# Altium footprint library PCB - CONNECTOR - HARWIN - HARWIN M20-9740645.PcbLib: 1 footprints
Each footprint in its own frame and in the unit in brackets; x right, y up, seen from the top. Pads: shape width x height; smd on the part's side, far side on the other; paste and mask are expansions set on the pad; w line width, h text height; cw(c..) or ccw(c..) is an arc to the next point about the centre after c.
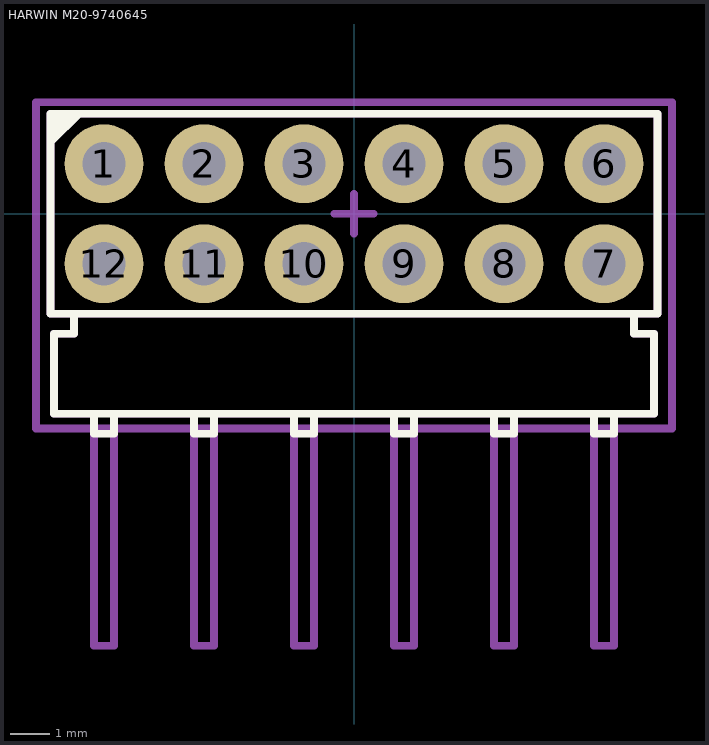
[diagram p0: the footprint, top view; thin cyan lines are the x and y axes]

## HARWIN M20-9740645 [mm] "2.54mm DIL PC TAIL PIN HEADER ASSEMBLY"
height 2.54
pads (12):
  round 2 hole 1.1: 1(-6.35,1.27) 2(-3.81,1.27) 3(-1.27,1.27) 4(1.27,1.27) 5(3.81,1.27) 6(6.35,1.27) 7(6.35,-1.27) 8(3.81,-1.27) 9(1.27,-1.27) 10(-1.27,-1.27) 11(-3.81,-1.27) 12(-6.35,-1.27)
Top Overlay:
  region: -7.73,2.57 -7.73,1.67 -6.83,2.57
  lines w0.2: -7.112,-2.54 -7.112,-3.048 -7.62,-3.048 -7.62,-5.08 7.62,-5.08 7.62,-3.048 7.112,-3.048 7.112,-2.54 ; -6.604,-5.08 -6.604,-5.588 -6.096,-5.588 -6.096,-5.08 ; -4.064,-5.08 -4.064,-5.588 -3.556,-5.588 -3.556,-5.08 ; -1.524,-5.08 -1.524,-5.588 -1.016,-5.588 -1.016,-5.08 ; 1.016,-5.08 1.016,-5.588 1.524,-5.588 1.524,-5.08 ; 3.556,-5.08 3.556,-5.588 4.064,-5.588 4.064,-5.08 ; 6.096,-5.08 6.096,-5.588 6.604,-5.588 6.604,-5.08 ; -7.71,-2.54 7.71,-2.54 7.71,2.54 -7.71,2.54 -7.71,-2.54
Top Assembly:
  lines w0.2: -6.604,-2.54 -7.112,-2.54 -7.112,-3.048 -7.62,-3.048 -7.62,-5.08 -6.604,-5.08 -6.604,-10.97 -6.096,-10.97 -6.096,-5.08 -4.064,-5.08 -4.064,-10.97 -3.556,-10.97 -3.556,-5.08 -1.524,-5.08 -1.524,-10.97 -1.016,-10.97 -1.016,-5.08 1.016,-5.08 1.016,-10.97 1.524,-10.97 1.524,-5.08 3.556,-5.08 3.556,-10.97 4.064,-10.97 4.064,-5.08 6.096,-5.08 6.096,-10.97 6.604,-10.97 6.604,-5.08 7.62,-5.08 7.62,-3.048 7.112,-3.048 7.112,-2.54 6.604,-2.54 ; -0.5,0 0.5,0 ; 0,-0.5 0,0.5 ; -7.71,-2.54 -7.71,2.54 7.71,2.54 7.71,-2.54 -7.71,-2.54
Top Courtyard (Mech15):
  lines w0.2: -8.08,-5.454 -8.08,2.83 8.08,2.83 8.08,-5.454 -8.08,-5.454
3D body "M20-7830642.step": height 5, standoff -3.04, extent -7.62,-10.97 7.62,1.59